# Altium schematic symbol library 模块元件库.SchLib: 1 symbol
Pins are listed as number, name and electrical type; pins without a type are passive.

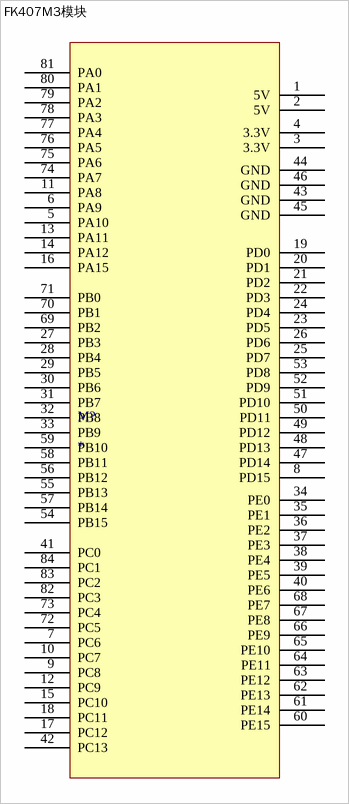
[diagram p0: symbol FK407M3模块]

## FK407M3模块
designator M?
footprint FK407M3模块
pins: 1 5V, 2 5V, 3 3.3V, 4 3.3V, 5 PA10, 6 PA9, 7 PC6, 8 PD15, 9 PC8, 10 PC7, 11 PA8, 12 PC9, 13 PA11, 14 PA12, 15 PC10, 16 PA15, 17 PC12, 18 PC11, 19 PD0, 20 PD1, 21 PD2, 22 PD3, 23 PD5, 24 PD4, 25 PD7, 26 PD6, 27 PB3, 28 PB4, 29 PB5, 30 PB6, 31 PB7, 32 PB8, 33 PB9, 34 PE0, 35 PE1, 36 PE2, 37 PE3, 38 PE4, 39 PE5, 40 PE6, 41 PC0, 42 PC13, 43 GND, 44 GND, 45 GND, 46 GND, 47 PD14, 48 PD13, 49 PD12, 50 PD11, 51 PD10, 52 PD9, 53 PD8, 54 PB15, 55 PB13, 56 PB12, 57 PB14, 58 PB11, 59 PB10, 60 PE15, 61 PE14, 62 PE13, 63 PE12, 64 PE11, 65 PE10, 66 PE9, 67 PE8, 68 PE7, 69 PB2, 70 PB1, 71 PB0, 72 PC5, 73 PC4, 74 PA7, 75 PA6, 76 PA5, 77 PA4, 78 PA3, 79 PA2, 80 PA1, 81 PA0, 82 PC3, 83 PC2, 84 PC1